# EAGLE library part ENC424J600 (library ELL-i-DigitalIC)
ENC424J600 The ENC424J600 and ENC624J600 are stand-alone, Fast Ethernet controllers with an industry standard Serial Peripheral Interface (SPI) or a flexible parallel interface. They are designed to serve as an Ethernet network interface for any microcontroller equipped with SPI or a standard parallel port Not reviewed. Datasheet <http://ww1.microchip.com/downloads/en/DeviceDoc/39935b.pdf>
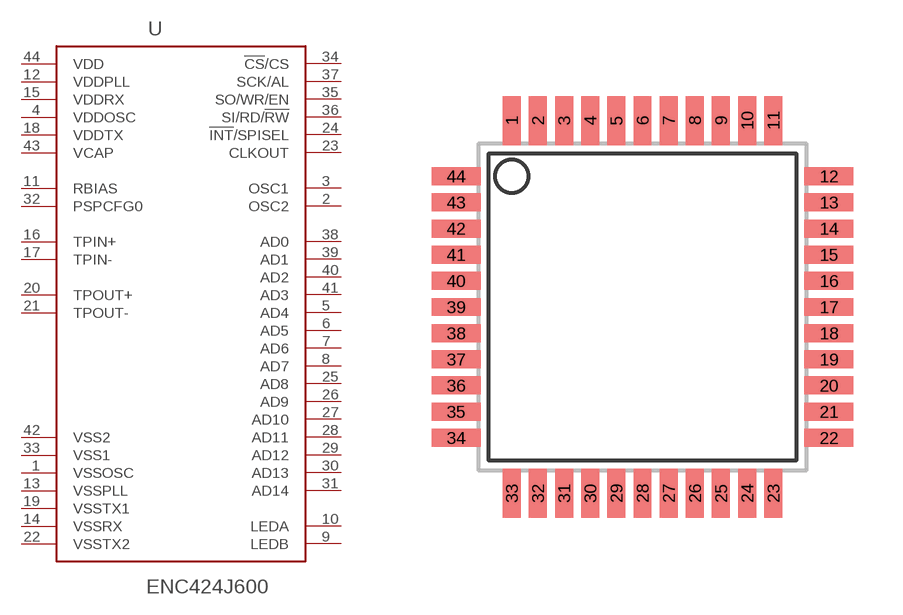
[diagram p12: symbol with the pads of TQFP44-0.8MM; footprint TQFP44-0.8MM]

Designator prefix U

## ENC424J600  [TQFP44-0.8MM]
1  VSSOSC  pwr
2  OSC2  out
3  OSC1  in
4  VDDOSC  pwr
5  AD4
6  AD5
7  AD6
8  AD7
9  LEDB  out
10  LEDA  out
11  RBIAS  in
12  VDDPLL  pwr
13  VSSPLL  pwr
14  VSSRX  pwr
15  VDDRX  pwr
16  TPIN+  in
17  TPIN-  in
18  VDDTX  pwr
19  VSSTX1  pwr
20  TPOUT+  out
21  TPOUT-  out
22  VSSTX2  pwr
23  CLKOUT  out
24  !INT!/SPISEL
25  AD8
26  AD9
27  AD10
28  AD11
29  AD12
30  AD13
31  AD14
32  PSPCFG0  in
33  VSS1  pwr
34  !CS!/CS  in
35  SO/WR/EN
36  SI/RD/!RW  in
37  SCK/AL  in
38  AD0
39  AD1
40  AD2
41  AD3
42  VSS2  pwr
43  VCAP  pwr
44  VDD  pwr

## Footprint TQFP44-0.8MM (pad centres in mm)
44-pin TGFP, 0.8 mm pitch, 10*10 mm body Package drawn from Datasheet <http://ww1.microchip.com/downloads/en/DeviceDoc/39935b.pdf> pages 154 and 155. Not reviewed
smd 0.55 x 1.5: 1 -4,5.7; 2 -3.2,5.7; 3 -2.4,5.7; 4 -1.6,5.7; 5 -0.8,5.7; 6 0,5.7; 7 0.8,5.7; 8 1.6,5.7; 9 2.4,5.7; 10 3.2,5.7; 11 4,5.7; 23 4,-5.7; 24 3.2,-5.7; 25 2.4,-5.7; 26 1.6,-5.7; 27 0.8,-5.7; 28 0,-5.7; 29 -0.8,-5.7; 30 -1.6,-5.7; 31 -2.4,-5.7; 32 -3.2,-5.7; 33 -4,-5.7
smd 1.5 x 0.55: 12 5.7,4; 13 5.7,3.2; 14 5.7,2.4; 15 5.7,1.6; 16 5.7,0.8; 17 5.7,0; 18 5.7,-0.8; 19 5.7,-1.6; 20 5.7,-2.4; 21 5.7,-3.2; 22 5.7,-4; 34 -5.7,-4; 35 -5.7,-3.2; 36 -5.7,-2.4; 37 -5.7,-1.6; 38 -5.7,-0.8; 39 -5.7,0; 40 -5.7,0.8; 41 -5.7,1.6; 42 -5.7,2.4; 43 -5.7,3.2; 44 -5.7,4